# Altium footprint library Memory.PcbLib: 12 footprints
Each footprint in its own frame and in the unit in brackets; x right, y up, seen from the top. Pads: shape width x height; smd on the part's side, far side on the other; paste and mask are expansions set on the pad; w line width, h text height; cw(c..) or ccw(c..) is an arc to the next point about the centre after c.
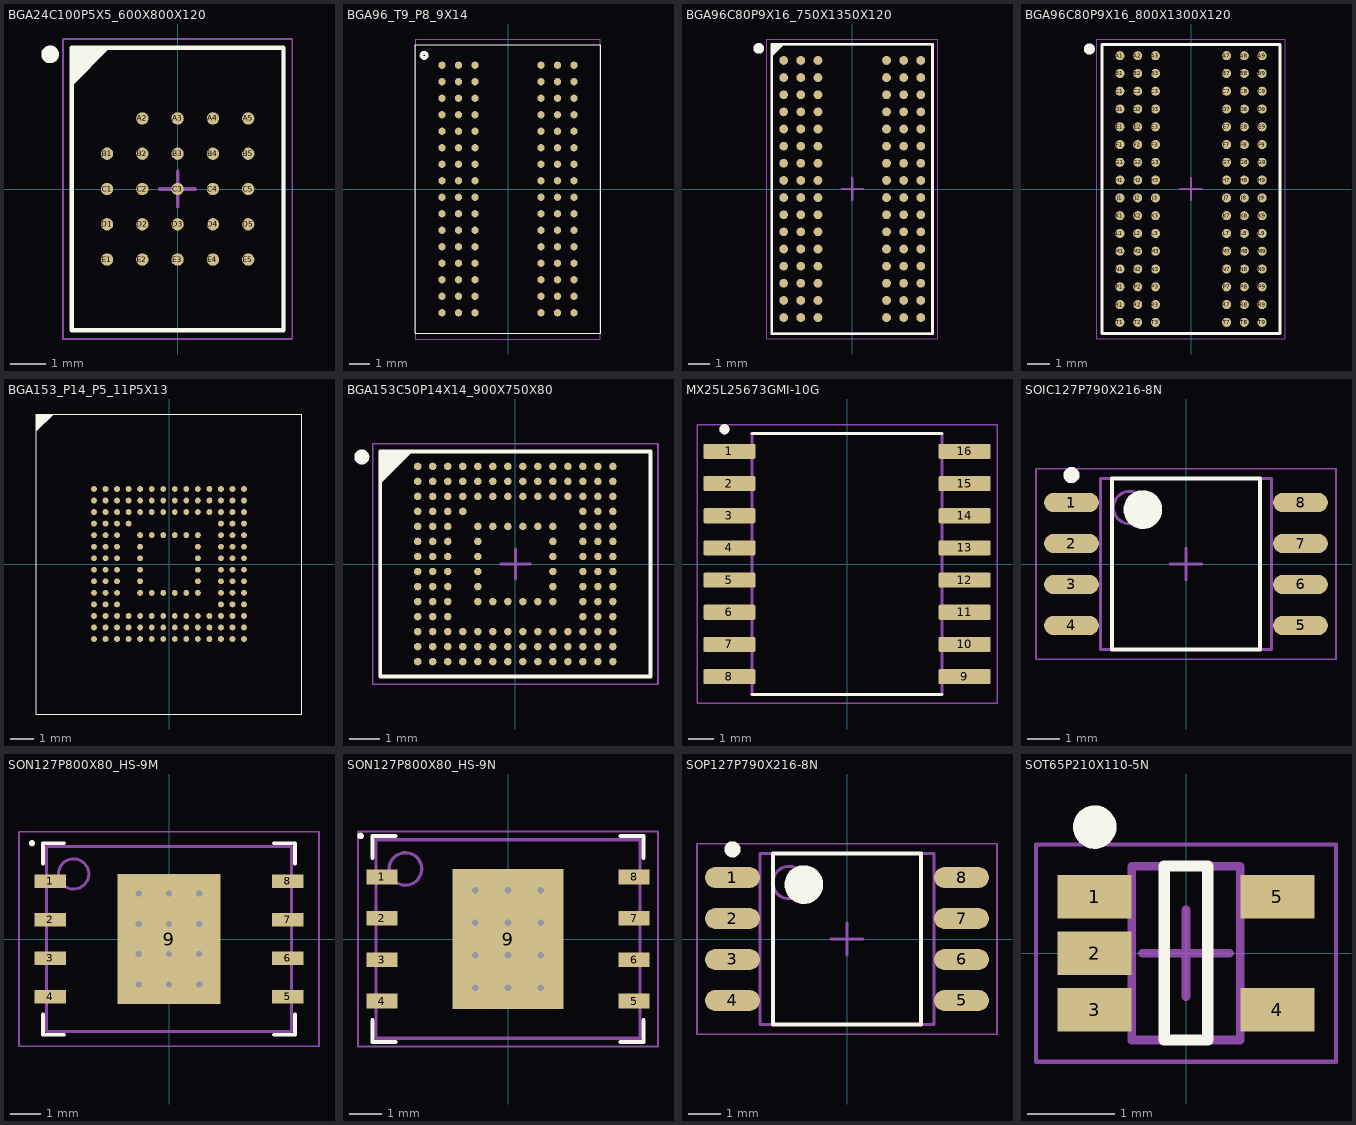
[diagram p0: the footprints below, top view; thin cyan lines are the x and y axes]

## BGA24C100P5X5_600X800X120 [mm] "BGA, 24-Leads, Body 6,00x8,00mmx1,20mm, Pitch 1,00mm"
height 1.2
pads (24):
  round 0.35 smd: A2(-1,2) A3(0,2) A4(1,2) A5(2,2) B1(-2,1) B2(-1,1) B3(0,1) B4(1,1) B5(2,1) C1(-2,0) C2(-1,0) C3(0,0) C4(1,0) C5(2,0) D1(-2,-1) D2(-1,-1) D3(0,-1) D4(1,-1) D5(2,-1) E1(-2,-2) E2(-1,-2) E3(0,-2) E4(1,-2) E5(2,-2)
Top Overlay:
  circle w0.25: c-3.614,3.814 r0.125
  region: -2,4 -3,3 -3,4
  lines w0.127: -3,3 -2,4 ; -3,-4 3,-4 3,4 -3,4 -3,-4
Mechanical 13:
  lines w0.1: -3,-4 3,-4 3,4 -3,4 -3,-4
Mechanical 15:
  lines w0.05: -3.25,-4.25 3.25,-4.25 3.25,4.25 -3.25,4.25 -3.25,-4.25
  lines w0.1: -0.5,0 0.5,0 ; 0,-0.5 0,0.5
3D body "BGA24C100P5X5_600X800X120.step": height 1.2, standoff 0, extent -3,-4 3,4

## BGA96_T9_P8_9X14 [mil] "BGA96_T9_P8_9X14"
pads (96):
  round 14 smd mask+2: A1(-126,236.25) A2(-94.5,236.25) A3(-63,236.25) A7(63,236.25) A8(94.5,236.25) A9(126,236.25) B1(-126,204.75) B2(-94.5,204.75) B3(-63,204.75) B7(63,204.75) B8(94.5,204.75) B9(126,204.75) C1(-126,173.25) C2(-94.5,173.25) C3(-63,173.25) C7(63,173.25) C8(94.5,173.25) C9(126,173.25) D1(-126,141.75) D2(-94.5,141.75) D3(-63,141.75) D7(63,141.75) D8(94.5,141.75) D9(126,141.75) E1(-126,110.25) E2(-94.5,110.25) E3(-63,110.25) E7(63,110.25) E8(94.5,110.25) E9(126,110.25) F1(-126,78.75) F2(-94.5,78.75) F3(-63,78.75) F7(63,78.75) F8(94.5,78.75) F9(126,78.75) G1(-126,47.25) G2(-94.5,47.25) G3(-63,47.25) G7(63,47.25) G8(94.5,47.25) G9(126,47.25) H1(-126,15.75) H2(-94.5,15.75) H3(-63,15.75) H7(63,15.75) H8(94.5,15.75) H9(126,15.75) J1(-126,-15.75) J2(-94.5,-15.75) J3(-63,-15.75) J7(63,-15.75) J8(94.5,-15.75) J9(126,-15.75) K1(-126,-47.25) K2(-94.5,-47.25) K3(-63,-47.25) K7(63,-47.25) K8(94.5,-47.25) K9(126,-47.25) L1(-126,-78.75) L2(-94.5,-78.75) L3(-63,-78.75) L7(63,-78.75) L8(94.5,-78.75) L9(126,-78.75) M1(-126,-110.25) M2(-94.5,-110.25) M3(-63,-110.25) M7(63,-110.25) M8(94.5,-110.25) M9(126,-110.25) N1(-126,-141.75) N2(-94.5,-141.75) N3(-63,-141.75) N7(63,-141.75) N8(94.5,-141.75) N9(126,-141.75) P1(-126,-173.25) P2(-94.5,-173.25) P3(-63,-173.25) P7(63,-173.25) P8(94.5,-173.25) P9(126,-173.25) R1(-126,-204.75) R2(-94.5,-204.75) R3(-63,-204.75) R7(63,-204.75) R8(94.5,-204.75) R9(126,-204.75) T1(-126,-236.25) T2(-94.5,-236.25) T3(-63,-236.25) T7(63,-236.25) T8(94.5,-236.25) T9(126,-236.25)
Top Overlay:
  circle w7: c-160,255 r5
  lines w1: -177,-275.5 -177,275.5 177,275.5 177,-275.5 -177,-275.5
Mechanical 1:
  lines w1: -176,-286.25 -176,286.25 176,286.25 176,-286.25 -176,-286.25
3D body "FBGA96-9X14.step": height 39.28, standoff -4.03, extent -177.17,-275 177.16,276.18

## BGA96C80P9X16_750X1350X120 [mm] "BGA, 96-Leads, Body 7,50x13,50mmx1,20mm, Pitch 0,80mm"
height 1.2
pads (96):
  round 0.41 smd: A1(-3.2,6) A2(-2.4,6) A3(-1.6,6) A7(1.6,6) A8(2.4,6) A9(3.2,6) B1(-3.2,5.2) B2(-2.4,5.2) B3(-1.6,5.2) B7(1.6,5.2) B8(2.4,5.2) B9(3.2,5.2) C1(-3.2,4.4) C2(-2.4,4.4) C3(-1.6,4.4) C7(1.6,4.4) C8(2.4,4.4) C9(3.2,4.4) D1(-3.2,3.6) D2(-2.4,3.6) D3(-1.6,3.6) D7(1.6,3.6) D8(2.4,3.6) D9(3.2,3.6) E1(-3.2,2.8) E2(-2.4,2.8) E3(-1.6,2.8) E7(1.6,2.8) E8(2.4,2.8) E9(3.2,2.8) F1(-3.2,2) F2(-2.4,2) F3(-1.6,2) F7(1.6,2) F8(2.4,2) F9(3.2,2) G1(-3.2,1.2) G2(-2.4,1.2) G3(-1.6,1.2) G7(1.6,1.2) G8(2.4,1.2) G9(3.2,1.2) H1(-3.2,0.4) H2(-2.4,0.4) H3(-1.6,0.4) H7(1.6,0.4) H8(2.4,0.4) H9(3.2,0.4) J1(-3.2,-0.4) J2(-2.4,-0.4) J3(-1.6,-0.4) J7(1.6,-0.4) J8(2.4,-0.4) J9(3.2,-0.4) K1(-3.2,-1.2) K2(-2.4,-1.2) K3(-1.6,-1.2) K7(1.6,-1.2) K8(2.4,-1.2) K9(3.2,-1.2) L1(-3.2,-2) L2(-2.4,-2) L3(-1.6,-2) L7(1.6,-2) L8(2.4,-2) L9(3.2,-2) M1(-3.2,-2.8) M2(-2.4,-2.8) M3(-1.6,-2.8) M7(1.6,-2.8) M8(2.4,-2.8) M9(3.2,-2.8) N1(-3.2,-3.6) N2(-2.4,-3.6) N3(-1.6,-3.6) N7(1.6,-3.6) N8(2.4,-3.6) N9(3.2,-3.6) P1(-3.2,-4.4) P2(-2.4,-4.4) P3(-1.6,-4.4) P7(1.6,-4.4) P8(2.4,-4.4) P9(3.2,-4.4) R1(-3.2,-5.2) R2(-2.4,-5.2) R3(-1.6,-5.2) R7(1.6,-5.2) R8(2.4,-5.2) R9(3.2,-5.2) T1(-3.2,-6) T2(-2.4,-6) T3(-1.6,-6) T7(1.6,-6) T8(2.4,-6) T9(3.2,-6)
Top Overlay:
  circle w0.25: c-4.364,6.563 r0.125
  region: -3.254,6.75 -3.75,6.254 -3.75,6.75
  lines w0.127: -3.75,6.254 -3.254,6.75 ; -3.75,-6.75 -3.75,6.75 3.75,6.75 3.75,-6.75 -3.75,-6.75
Mechanical 13:
  lines w0.1: -3.75,-6.75 -3.75,6.75 3.75,6.75 3.75,-6.75 -3.75,-6.75
Mechanical 15:
  lines w0.05: -4,-7 -4,7 4,7 4,-7 -4,-7
  lines w0.1: -0.5,0 0.5,0 ; 0,-0.5 0,0.5
3D body "BGA96C80P9X16_750X1350X120.step": height 1.2, standoff 0, extent -3.75,-6.75 3.75,6.75

## BGA96C80P9X16_800X1300X120 [mm] "BGA, 96-Leads, Body 8,00x13,00mmx1,20mm, Pitch 0,80mm"
height 1.2
pads (96):
  round 0.41 smd: A1(-3.2,6) A2(-2.4,6) A3(-1.6,6) A7(1.6,6) A8(2.4,6) A9(3.2,6) B1(-3.2,5.2) B2(-2.4,5.2) B3(-1.6,5.2) B7(1.6,5.2) B8(2.4,5.2) B9(3.2,5.2) C1(-3.2,4.4) C2(-2.4,4.4) C3(-1.6,4.4) C7(1.6,4.4) C8(2.4,4.4) C9(3.2,4.4) D1(-3.2,3.6) D2(-2.4,3.6) D3(-1.6,3.6) D7(1.6,3.6) D8(2.4,3.6) D9(3.2,3.6) E1(-3.2,2.8) E2(-2.4,2.8) E3(-1.6,2.8) E7(1.6,2.8) E8(2.4,2.8) E9(3.2,2.8) F1(-3.2,2) F2(-2.4,2) F3(-1.6,2) F7(1.6,2) F8(2.4,2) F9(3.2,2) G1(-3.2,1.2) G2(-2.4,1.2) G3(-1.6,1.2) G7(1.6,1.2) G8(2.4,1.2) G9(3.2,1.2) H1(-3.2,0.4) H2(-2.4,0.4) H3(-1.6,0.4) H7(1.6,0.4) H8(2.4,0.4) H9(3.2,0.4) J1(-3.2,-0.4) J2(-2.4,-0.4) J3(-1.6,-0.4) J7(1.6,-0.4) J8(2.4,-0.4) J9(3.2,-0.4) K1(-3.2,-1.2) K2(-2.4,-1.2) K3(-1.6,-1.2) K7(1.6,-1.2) K8(2.4,-1.2) K9(3.2,-1.2) L1(-3.2,-2) L2(-2.4,-2) L3(-1.6,-2) L7(1.6,-2) L8(2.4,-2) L9(3.2,-2) M1(-3.2,-2.8) M2(-2.4,-2.8) M3(-1.6,-2.8) M7(1.6,-2.8) M8(2.4,-2.8) M9(3.2,-2.8) N1(-3.2,-3.6) N2(-2.4,-3.6) N3(-1.6,-3.6) N7(1.6,-3.6) N8(2.4,-3.6) N9(3.2,-3.6) P1(-3.2,-4.4) P2(-2.4,-4.4) P3(-1.6,-4.4) P7(1.6,-4.4) P8(2.4,-4.4) P9(3.2,-4.4) R1(-3.2,-5.2) R2(-2.4,-5.2) R3(-1.6,-5.2) R7(1.6,-5.2) R8(2.4,-5.2) R9(3.2,-5.2) T1(-3.2,-6) T2(-2.4,-6) T3(-1.6,-6) T7(1.6,-6) T8(2.4,-6) T9(3.2,-6)
Top Overlay:
  circle w0.25: c-4.575,6.3 r0.125
  lines w0.127: -4,-6.5 -4,6.5 4,6.5 4,-6.5 -4,-6.5
Mechanical 13:
  lines w0.1: -4,-6.5 4,-6.5 4,6.5 -4,6.5 -4,-6.5
Mechanical 15:
  lines w0.05: -4.25,-6.75 4.25,-6.75 4.25,6.75 -4.25,6.75 -4.25,-6.75
  lines w0.1: -0.5,0 0.5,0 ; 0,-0.5 0,0.5
3D body "BGA96C80P9X16_800X1300X120-X.step": height 1.2, standoff 0, extent -4,-6.5 4,6.5

## BGA153_P14_P5_11P5X13 [mil] "BGA153_P14_P5_11P5X13"
pads (153):
  round 10 smd mask+2: A1(-127.95,127.95) A2(-108.27,127.95) A3(-88.58,127.95) A4(-68.9,127.95) A5(-49.21,127.95) A6(-29.53,127.95) A7(-9.84,127.95) A8(9.84,127.95) A9(29.53,127.95) A10(49.21,127.95) A11(68.9,127.95) A12(88.58,127.95) A13(108.27,127.95) A14(127.95,127.95) B1(-127.95,108.27) B2(-108.27,108.27) B3(-88.58,108.27) B4(-68.9,108.27) B5(-49.21,108.27) B6(-29.53,108.27) B7(-9.84,108.27) B8(9.84,108.27) B9(29.53,108.27) B10(49.21,108.27) B11(68.9,108.27) B12(88.58,108.27) B13(108.27,108.27) B14(127.95,108.27) C1(-127.95,88.58) C2(-108.27,88.58) C3(-88.58,88.58) C4(-68.9,88.58) C5(-49.21,88.58) C6(-29.53,88.58) C7(-9.84,88.58) C8(9.84,88.58) C9(29.53,88.58) C10(49.21,88.58) C11(68.9,88.58) C12(88.58,88.58) C13(108.27,88.58) C14(127.95,88.58) D1(-127.95,68.9) D2(-108.27,68.9) D3(-88.58,68.9) D4(-68.9,68.9) D12(88.58,68.9) D13(108.27,68.9) D14(127.95,68.9) E1(-127.95,49.21) E2(-108.27,49.21) E3(-88.58,49.21) E5(-49.21,49.21) E6(-29.53,49.21) E7(-9.84,49.21) E8(9.84,49.21) E9(29.53,49.21) E10(49.21,49.21) E12(88.58,49.21) E13(108.27,49.21) E14(127.95,49.21) F1(-127.95,29.53) F2(-108.27,29.53) F3(-88.58,29.53) F5(-49.21,29.53) F10(49.21,29.53) F12(88.58,29.53) F13(108.27,29.53) F14(127.95,29.53) G1(-127.95,9.84) G2(-108.27,9.84) G3(-88.58,9.84) G5(-49.21,9.84) G10(49.21,9.84) G12(88.58,9.84) G13(108.27,9.84) G14(127.95,9.84) H1(-127.95,-9.84) H2(-108.27,-9.84) H3(-88.58,-9.84) H5(-49.21,-9.84) H10(49.21,-9.84) H12(88.58,-9.84) H13(108.27,-9.84) H14(127.95,-9.84) J1(-127.95,-29.53) J2(-108.27,-29.53) J3(-88.58,-29.53) J5(-49.21,-29.53) J10(49.21,-29.53) J12(88.58,-29.53) J13(108.27,-29.53) J14(127.95,-29.53) K1(-127.95,-49.21) K2(-108.27,-49.21) K3(-88.58,-49.21) K5(-49.21,-49.21) K6(-29.53,-49.21) K7(-9.84,-49.21) K8(9.84,-49.21) K9(29.53,-49.21) K10(49.21,-49.21) K12(88.58,-49.21) K13(108.27,-49.21) K14(127.95,-49.21) L1(-127.95,-68.9) L2(-108.27,-68.9) L3(-88.58,-68.9) L12(88.58,-68.9) L13(108.27,-68.9) L14(127.95,-68.9) M1(-127.95,-88.58) M2(-108.27,-88.58) M3(-88.58,-88.58) M4(-68.9,-88.58) M5(-49.21,-88.58) M6(-29.53,-88.58) M7(-9.84,-88.58) M8(9.84,-88.58) M9(29.53,-88.58) M10(49.21,-88.58) M11(68.9,-88.58) M12(88.58,-88.58) M13(108.27,-88.58) M14(127.95,-88.58) N1(-127.95,-108.27) N2(-108.27,-108.27) N3(-88.58,-108.27) N4(-68.9,-108.27) N5(-49.21,-108.27) N6(-29.53,-108.27) N7(-9.84,-108.27) N8(9.84,-108.27) N9(29.53,-108.27) N10(49.21,-108.27) N11(68.9,-108.27) N12(88.58,-108.27) N13(108.27,-108.27) N14(127.95,-108.27) P1(-127.95,-127.95) P2(-108.27,-127.95) P3(-88.58,-127.95) P4(-68.9,-127.95) P5(-49.21,-127.95) P6(-29.53,-127.95) P7(-9.84,-127.95) P8(9.84,-127.95) P9(29.53,-127.95) P10(49.21,-127.95) P11(68.9,-127.95) P12(88.58,-127.95) P13(108.27,-127.95) P14(127.95,-127.95)
Top Overlay:
  pour cut-out: -196.85,255.91 -226.38,226.38 -226.38,255.91
  lines w1: -226.38,-255.91 -226.38,255.91 226.38,255.91 226.38,-255.91 -226.38,-255.91
3D body "WFBGA153.step": height 29.84, standoff -1.73, extent -226.37,-255.9 226.38,255.91

## BGA153C50P14X14_900X750X80 [mm] "BGA, 153-Leads, Body 9,00x7,50mmx0,80mm, Pitch 0,50mm"
height 0.8
pads (153):
  round 0.25 smd: A1(-3.25,3.25) A2(-2.75,3.25) A3(-2.25,3.25) A4(-1.75,3.25) A5(-1.25,3.25) A6(-0.75,3.25) A7(-0.25,3.25) A8(0.25,3.25) A9(0.75,3.25) A10(1.25,3.25) A11(1.75,3.25) A12(2.25,3.25) A13(2.75,3.25) A14(3.25,3.25) B1(-3.25,2.75) B2(-2.75,2.75) B3(-2.25,2.75) B4(-1.75,2.75) B5(-1.25,2.75) B6(-0.75,2.75) B7(-0.25,2.75) B8(0.25,2.75) B9(0.75,2.75) B10(1.25,2.75) B11(1.75,2.75) B12(2.25,2.75) B13(2.75,2.75) B14(3.25,2.75) C1(-3.25,2.25) C2(-2.75,2.25) C3(-2.25,2.25) C4(-1.75,2.25) C5(-1.25,2.25) C6(-0.75,2.25) C7(-0.25,2.25) C8(0.25,2.25) C9(0.75,2.25) C10(1.25,2.25) C11(1.75,2.25) C12(2.25,2.25) C13(2.75,2.25) C14(3.25,2.25) D1(-3.25,1.75) D2(-2.75,1.75) D3(-2.25,1.75) D4(-1.75,1.75) D12(2.25,1.75) D13(2.75,1.75) D14(3.25,1.75) E1(-3.25,1.25) E2(-2.75,1.25) E3(-2.25,1.25) E5(-1.25,1.25) E6(-0.75,1.25) E7(-0.25,1.25) E8(0.25,1.25) E9(0.75,1.25) E10(1.25,1.25) E12(2.25,1.25) E13(2.75,1.25) E14(3.25,1.25) F1(-3.25,0.75) F2(-2.75,0.75) F3(-2.25,0.75) F5(-1.25,0.75) F10(1.25,0.75) F12(2.25,0.75) F13(2.75,0.75) F14(3.25,0.75) G1(-3.25,0.25) G2(-2.75,0.25) G3(-2.25,0.25) G5(-1.25,0.25) G10(1.25,0.25) G12(2.25,0.25) G13(2.75,0.25) G14(3.25,0.25) H1(-3.25,-0.25) H2(-2.75,-0.25) H3(-2.25,-0.25) H5(-1.25,-0.25) H10(1.25,-0.25) H12(2.25,-0.25) H13(2.75,-0.25) H14(3.25,-0.25) J1(-3.25,-0.75) J2(-2.75,-0.75) J3(-2.25,-0.75) J5(-1.25,-0.75) J10(1.25,-0.75) J12(2.25,-0.75) J13(2.75,-0.75) J14(3.25,-0.75) K1(-3.25,-1.25) K2(-2.75,-1.25) K3(-2.25,-1.25) K5(-1.25,-1.25) K6(-0.75,-1.25) K7(-0.25,-1.25) K8(0.25,-1.25) K9(0.75,-1.25) K10(1.25,-1.25) K12(2.25,-1.25) K13(2.75,-1.25) K14(3.25,-1.25) L1(-3.25,-1.75) L2(-2.75,-1.75) L3(-2.25,-1.75) L12(2.25,-1.75) L13(2.75,-1.75) L14(3.25,-1.75) M1(-3.25,-2.25) M2(-2.75,-2.25) M3(-2.25,-2.25) M4(-1.75,-2.25) M5(-1.25,-2.25) M6(-0.75,-2.25) M7(-0.25,-2.25) M8(0.25,-2.25) M9(0.75,-2.25) M10(1.25,-2.25) M11(1.75,-2.25) M12(2.25,-2.25) M13(2.75,-2.25) M14(3.25,-2.25) N1(-3.25,-2.75) N2(-2.75,-2.75) N3(-2.25,-2.75) N4(-1.75,-2.75) N5(-1.25,-2.75) N6(-0.75,-2.75) N7(-0.25,-2.75) N8(0.25,-2.75) N9(0.75,-2.75) N10(1.25,-2.75) N11(1.75,-2.75) N12(2.25,-2.75) N13(2.75,-2.75) N14(3.25,-2.75) P1(-3.25,-3.25) P2(-2.75,-3.25) P3(-2.25,-3.25) P4(-1.75,-3.25) P5(-1.25,-3.25) P6(-0.75,-3.25) P7(-0.25,-3.25) P8(0.25,-3.25) P9(0.75,-3.25) P10(1.25,-3.25) P11(1.75,-3.25) P12(2.25,-3.25) P13(2.75,-3.25) P14(3.25,-3.25)
Top Overlay:
  circle w0.25: c-5.114,3.564 r0.125
  region: -3.5,3.75 -4.5,2.75 -4.5,3.75
  lines w0.127: -4.5,2.75 -3.5,3.75 ; -4.5,-3.75 4.5,-3.75 4.5,3.75 -4.5,3.75 -4.5,-3.75
Mechanical 13:
  lines w0.1: -4.5,-3.75 4.5,-3.75 4.5,3.75 -4.5,3.75 -4.5,-3.75
Mechanical 15:
  lines w0.05: -4.75,-4 4.75,-4 4.75,4 -4.75,4 -4.75,-4
  lines w0.1: -0.5,0 0.5,0 ; 0,-0.5 0,0.5
3D body "BGA153C50P14X14_900X750X80.step": height 0.8, standoff 0, extent -4.5,-3.75 4.5,3.75

## MX25L25673GMI-10G [mm] "SOIC-16-300mil"
pads (16):
  rrect25% 2.06x0.6 smd: 1(-4.64,4.445) 2(-4.64,3.175) 3(-4.64,1.905) 4(-4.64,0.635) 5(-4.64,-0.635) 6(-4.64,-1.905) 7(-4.64,-3.175) 8(-4.64,-4.445) 9(4.64,-4.445) 10(4.64,-3.175) 11(4.64,-1.905) 12(4.64,-0.635) 13(4.64,0.635) 14(4.64,1.905) 15(4.64,3.175) 16(4.64,4.445)
Top Overlay:
  circle w0.2: c-4.837,5.318 r0.1
  lines w0.127: -3.75,-5.15 3.75,-5.15 ; -3.75,5.15 3.75,5.15
Mechanical 13:
  circle w0.2: c-4.837,5.318 r0.1
  lines w0.127: -3.75,-5.15 -3.75,5.15 3.75,5.15 3.75,-5.15 -3.75,-5.15
Mechanical 15:
  lines w0.05: -5.92,-5.5 -5.92,5.5 5.92,5.5 5.92,-5.5 -5.92,-5.5
3D body "step_temp.STEP": height 2.65, standoff 0, extent -5.15,-5.15 5.15,5.15

## SOIC127P790X216-8N [mm] "SOIC, 8-Leads, Body 5,23x5,23mm, Pitch 1,27mm, IPC Medium Density"
height 2.16
pads (8):
  oval 1.7x0.6 smd: 1(-3.55,1.905) 2(-3.55,0.635) 3(-3.55,-0.635) 4(-3.55,-1.905) 5(3.55,-1.905) 6(3.55,-0.635) 7(3.55,0.635) 8(3.55,1.905)
Top Overlay:
  circle w0.25: c-3.55,2.755 r0.125
  circle w0.6: c-1.336,1.686 r0.3
  lines w0.127: -2.3,-2.65 -2.3,2.65 2.3,2.65 2.3,-2.65 -2.3,-2.65
Mechanical 13:
  circle w0.1: c-1.75,1.75 r0.5
  lines w0.1: -2.65,-2.65 -2.65,2.65 2.65,2.65 2.65,-2.65 -2.65,-2.65
Mechanical 15:
  lines w0.05: -4.65,-2.95 -4.65,2.95 4.65,2.95 4.65,-2.95 -4.65,-2.95
  lines w0.1: -0.5,0 0.5,0 ; 0,-0.5 0,0.5
3D body "SOIC127P790X216-8N.step": height 2.16, standoff 0, extent -3.95,-2.65 3.95,2.65

## SON127P800X80_HS-9M [mm] "SON, 8-Leads, Body 6,00x8,00mm, Pitch 1,27mm, Thermal Pad 4,30x3,40mm, IPC Low Density"
height 0.8
pads (9):
  rect 1.05x0.45 smd: 1(-3.92,1.905) 2(-3.92,0.635) 3(-3.92,-0.635) 4(-3.92,-1.905) 5(3.92,-1.905) 6(3.92,-0.635) 7(3.92,0.635) 8(3.92,1.905)
  rect 3.4x4.3 smd paste-1.7: 9(0,0)
via -1,1.5 diameter 0.5 hole 0.2
via 0,1.5 diameter 0.5 hole 0.2
via 1,1.5 diameter 0.5 hole 0.2
via -1,0.5 diameter 0.5 hole 0.2
via 0,0.5 diameter 0.5 hole 0.2
via 1,0.5 diameter 0.5 hole 0.2
via -1,-0.5 diameter 0.5 hole 0.2
via 0,-0.5 diameter 0.5 hole 0.2
via 1,-0.5 diameter 0.5 hole 0.2
via -1,-1.5 diameter 0.5 hole 0.2
via 0,-1.5 diameter 0.5 hole 0.2
via 1,-1.5 diameter 0.5 hole 0.2
Top Overlay:
  circle w0.1: c-4.527,3.163 r0.05
  lines w0.127: -4.163,-2.494 -4.163,-3.163 -3.458,-3.163 ; -4.163,2.494 -4.163,3.163 -3.458,3.163 ; 3.458,-3.163 4.163,-3.163 4.163,-2.494 ; 3.458,3.163 4.163,3.163 4.163,2.494
Top Paste:
  rectangle: -1.595,0.815 -0.665,2.045
  rectangle: -1.595,-0.615 -0.665,0.615
  rectangle: -1.595,-2.045 -0.665,-0.815
  rectangle: -0.465,0.815 0.465,2.045
  rectangle: -0.465,-0.615 0.465,0.615
  rectangle: -0.465,-2.045 0.465,-0.815
  rectangle: 0.665,0.815 1.595,2.045
  rectangle: 0.665,-0.615 1.595,0.615
  rectangle: 0.665,-2.045 1.595,-0.815
Mechanical 13:
  circle w0.1: c-3.15,2.15 r0.5
  lines w0.1: -4.05,-3.05 -4.05,3.05 4.05,3.05 4.05,-3.05 -4.05,-3.05
Mechanical 15:
  lines w0.05: -4.955,-3.55 -4.955,3.55 4.955,3.55 4.955,-3.55 -4.955,-3.55
  lines w0.1: -0.5,0 0.5,0 ; 0,-0.5 0,0.5
3D body "SON127P800X80_HS-9M.step": height 0.8, standoff 0, extent -4.051,-3.05 4.051,3.05

## SON127P800X80_HS-9N [mm] "SON, 8-Leads, Body 6,00x8,00mm, Pitch 1,27mm, Thermal Pad 4,30x3,40mm, IPC Medium Density"
height 0.8
pads (9):
  rect 0.95x0.45 smd: 1(-3.87,1.905) 2(-3.87,0.635) 3(-3.87,-0.635) 4(-3.87,-1.905) 5(3.87,-1.905) 6(3.87,-0.635) 7(3.87,0.635) 8(3.87,1.905)
  rect 3.4x4.3 smd paste-1.7: 9(0,0)
via -1,1.5 diameter 0.5 hole 0.2
via 0,1.5 diameter 0.5 hole 0.2
via 1,1.5 diameter 0.5 hole 0.2
via -1,0.5 diameter 0.5 hole 0.2
via 0,0.5 diameter 0.5 hole 0.2
via 1,0.5 diameter 0.5 hole 0.2
via -1,-0.5 diameter 0.5 hole 0.2
via 0,-0.5 diameter 0.5 hole 0.2
via 1,-0.5 diameter 0.5 hole 0.2
via -1,-1.5 diameter 0.5 hole 0.2
via 0,-1.5 diameter 0.5 hole 0.2
via 1,-1.5 diameter 0.5 hole 0.2
Top Overlay:
  circle w0.1: c-4.527,3.163 r0.05
  lines w0.127: -4.163,-2.494 -4.163,-3.163 -3.458,-3.163 ; -4.163,2.494 -4.163,3.163 -3.458,3.163 ; 3.458,-3.163 4.163,-3.163 4.163,-2.494 ; 3.458,3.163 4.163,3.163 4.163,2.494
Top Paste:
  rectangle: -1.595,0.815 -0.665,2.045
  rectangle: -1.595,-0.615 -0.665,0.615
  rectangle: -1.595,-2.045 -0.665,-0.815
  rectangle: -0.465,0.815 0.465,2.045
  rectangle: -0.465,-0.615 0.465,0.615
  rectangle: -0.465,-2.045 0.465,-0.815
  rectangle: 0.665,0.815 1.595,2.045
  rectangle: 0.665,-0.615 1.595,0.615
  rectangle: 0.665,-2.045 1.595,-0.815
Mechanical 13:
  circle w0.1: c-3.15,2.15 r0.5
  lines w0.1: -4.05,-3.05 -4.05,3.05 4.05,3.05 4.05,-3.05 -4.05,-3.05
Mechanical 15:
  lines w0.05: -4.605,-3.3 -4.605,3.3 4.605,3.3 4.605,-3.3 -4.605,-3.3
  lines w0.1: -0.5,0 0.5,0 ; 0,-0.5 0,0.5
3D body "SON127P800X80_HS-9N.step": height 0.8, standoff 0, extent -4.051,-3.05 4.051,3.05

## SOP127P790X216-8N [mm] "SOP, 8-Leads, Body 5,23x5,28mm, Pitch 1,27mm, IPC Medium Density"
height 2.16
pads (8):
  oval 1.7x0.65 smd: 1(-3.55,1.905) 2(-3.55,0.635) 3(-3.55,-0.635) 4(-3.55,-1.905) 5(3.55,-1.905) 6(3.55,-0.635) 7(3.55,0.635) 8(3.55,1.905)
Top Overlay:
  circle w0.6: c-1.336,1.686 r0.3
  circle w0.25: c-3.55,2.78 r0.125
  lines w0.127: -2.3,-2.65 2.3,-2.65 2.3,2.65 -2.3,2.65 -2.3,-2.65
Mechanical 13:
  circle w0.1: c-1.8,1.75 r0.5
  lines w0.1: -2.7,-2.65 2.7,-2.65 2.7,2.65 -2.7,2.65 -2.7,-2.65
Mechanical 15:
  lines w0.05: -4.65,-2.95 4.65,-2.95 4.65,2.95 -4.65,2.95 -4.65,-2.95
  lines w0.1: -0.5,0 0.5,0 ; 0,-0.5 0,0.5
3D body "SOP127P790X216-8N.step": height 2.16, standoff 0, extent -3.95,-2.65 3.95,2.65

## SOT65P210X110-5N [mm] "SOT23, 5-Leads, Body 2,00x2,10mm, Pitch 0,65mm, IPC Medium Density"
height 1.1
pads (5):
  rect 0.85x0.5 smd: 1(-1.05,0.65) 2(-1.05,0) 3(-1.05,-0.65) 4(1.05,-0.65) 5(1.05,0.65)
Top Overlay:
  circle w0.25: c-1.05,1.45 r0.125
  lines w0.127: -0.25,-1 -0.25,1 0.25,1 0.25,-1 -0.25,-1
Mechanical 13:
  lines w0.1: -0.625,-1 0.625,-1 0.625,1 -0.625,1 -0.625,-1
Mechanical 15:
  lines w0.05: -1.725,-1.25 1.725,-1.25 1.725,1.25 -1.725,1.25 -1.725,-1.25
  lines w0.1: -0.5,0 0.5,0 ; 0,-0.5 0,0.5
3D body "SOT65P210X110-5N.step": height 1.1, standoff 0, extent -1.15,-1 1.15,1